# Altium footprint library Rez_Gen.PcbLib: 1 footprints
Each footprint in its own frame and in the unit in brackets; x right, y up, seen from the top. Pads: shape width x height; smd on the part's side, far side on the other; paste and mask are expansions set on the pad; w line width, h text height; cw(c..) or ccw(c..) is an arc to the next point about the centre after c.
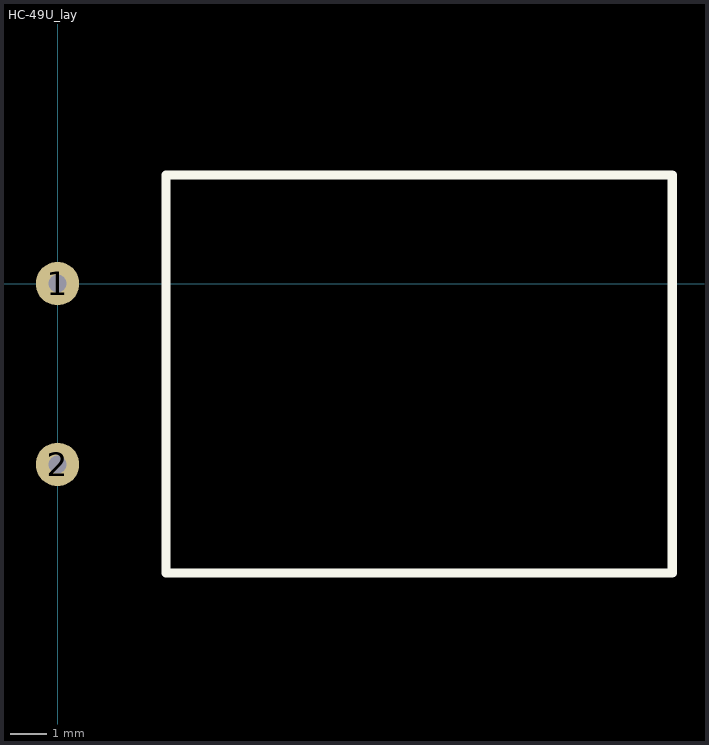
[diagram p0: the footprint, top view; thin cyan lines are the x and y axes]

## HC-49U_lay [mm]
pads (2):
  round 1.2 hole 0.5: 1(0,0) 2(0,-5)
Top Overlay:
  lines w0.254: 3,-8 17,-8 17,3 3,3 3,-8
3D body: height 5.32, standoff 0.67, extent 0.7,-8 16.7,2.9